# Altium footprint library KIA2431AS.PcbLib: 1 footprints
Each footprint in its own frame and in the unit in brackets; x right, y up, seen from the top. Pads: shape width x height; smd on the part's side, far side on the other; paste and mask are expansions set on the pad; w line width, h text height; cw(c..) or ccw(c..) is an arc to the next point about the centre after c.
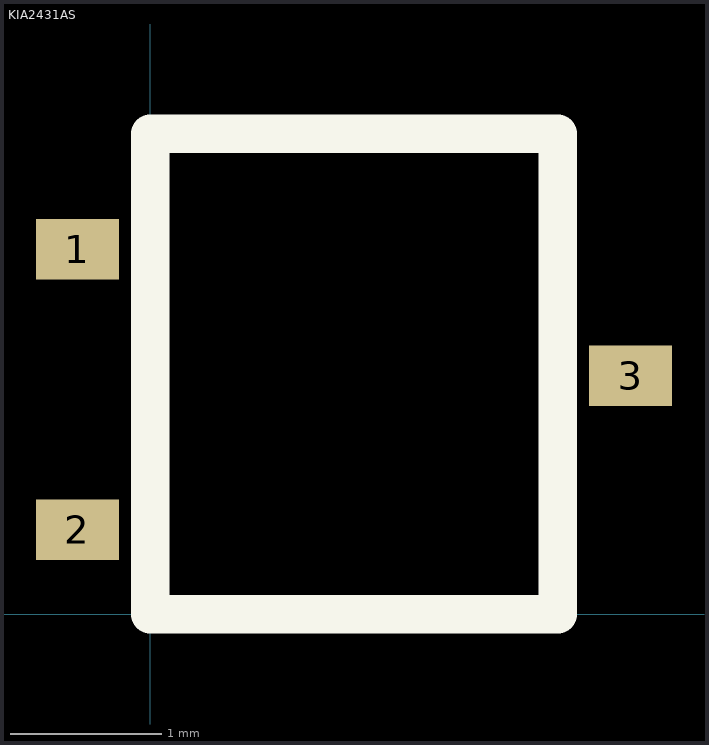
[diagram p0: the footprint, top view; thin cyan lines are the x and y axes]

## KIA2431AS [mm]
pads (3):
  rect 0.55x0.4 smd: 1(-0.483,2.413) 2(-0.483,0.559) 3(3.175,1.575)
Top Overlay:
  lines w0.254: 0,0 2.692,0 2.692,3.175 0,3.175 0,0
3D body: height 1, standoff 0, extent 0.127,0.127 2.591,3.048